# Altium schematic symbol library TLV9351IDCKR.SchLib: 1 symbol
Pins are listed as number, name and electrical type; pins without a type are passive.

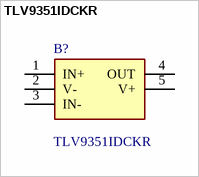
[diagram p0: symbol TLV9351IDCKR]

## TLV9351IDCKR
designator B?
Operational Amplifiers - Op Amps 40-V, single 3.5-MHz, RRO, MUX-friendly operational amplifier for cost-sensitive systems 5-SC70 -40 to 125; Manufacturer_Name: Texas Instruments; Geometry.Height: 1.1mm; Mouser Part Number: 595-TLV9351IDCKR; Mouser Price/Stock: https://www.mouser.co.uk/ProductDetail/Texas-Instruments/TLV9351IDCKR?qs=DRkmTr78QAQETvxeOeABCA%3D%3D; Manufacturer_Part_Number: TLV9351IDCKR; Datasheet Link: https://www.ti.com/lit/gpn/TLV9351
footprint SOT65P210X110-5N
pins: 1 IN+, 2 V-, 3 IN-, 4 OUT, 5 V+